# Altium footprint library PcbLib_capacior800VDC_50uF.PcbLib: 1 footprints
Each footprint in its own frame and in the unit in brackets; x right, y up, seen from the top. Pads: shape width x height; smd on the part's side, far side on the other; paste and mask are expansions set on the pad; w line width, h text height; cw(c..) or ccw(c..) is an arc to the next point about the centre after c.
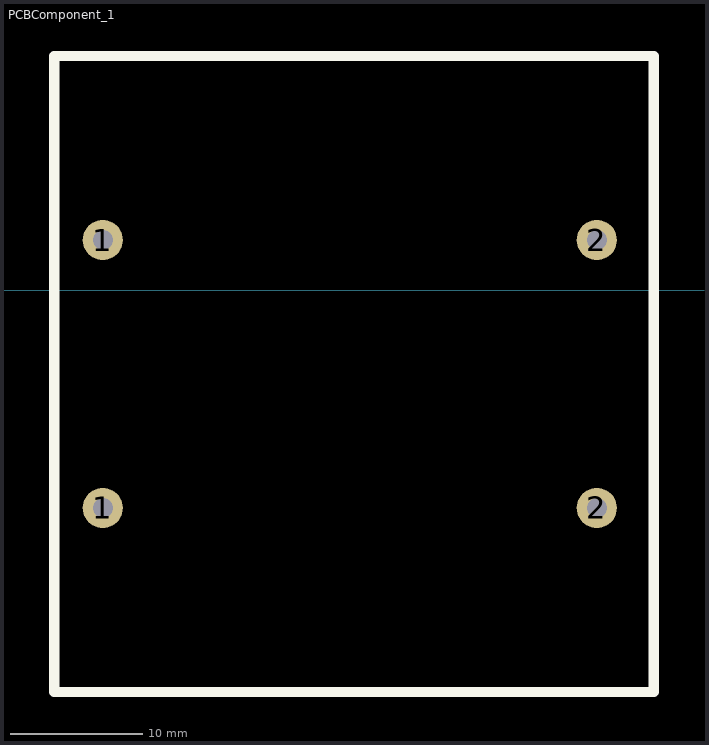
[diagram p0: the footprint, top view; thin cyan lines are the x and y axes]

## PCBComponent_1 [mil]
pads (4):
  round 120 hole 60: 1(575,-650) 1(575,150) 2(2050,-650) 2(2050,150)
Top Overlay:
  lines w30: 430,-1200 2220,-1200 2220,700 430,700 430,-1200